# EAGLE library part PIC18F26K83 (library TRN_Open_Servo)
PIC18(L)F25/26K83 28-Pin, Low-Power, High-Performance Microcontrollers with CAN Technology Description The PIC18(L)FXXK83 is a full-featured CAN product family that can be used in automotive and industrial applications. The multitude of communication peripherals found on the product family, such as CAN, SPI, two I2Cs, two UARTs, LIN, DMX, and DALI can handle a wide range of wired and wireless (using external modules) communication protocols for intelligent applications. This family includes a 12-bit ADC with Computation (ADC2) extensions for automated signal analysis to reduce the complexity of the application. This, combined with the Core Independent Peripherals integration capabilities, enables functions for motor control, power supply, sensor, signal and user interface applications. Core Features C Compiler Optimized RISC Architecture Operating Speed: - Up to 64 MHz clock operation - 62.5 ns minimum instruction cycle Two Direct Memory Access (DMA) Controllers: - Data transfers to SFR/GPR spaces from either Program Flash Memory, Data EEPROM or SFR/GPR spaces - User-programmable source and destination sizes - Hardware and software triggered data transfers System Bus Arbiter with User-Configurable Priorities for Scanner and DMA1/DMA2 with respect to the main line and interrpt execution Vectored Interrupt Capability: - Selectable high/low priority - Fixed interrupt latency - Programmable vector table base address 31-Level Deep Hardware Stack Low-Current Power-on Reset (POR) Configurable Power-up Timer (PWRT) Brown-Out Reset (BOR) Low-Power BOR (LPBOR) Option Windowed Watchdog Timer (WWDT): - Variable prescaler selection - Variable window size selection - Configurable in hardware or software Memory Up to 64 KB Flash Program Memory Up to 4 KB Data SRAM Memory Up to 1 KB Data EEPROM Memory Access Partition (MAP): - Configurable boot and app region seizes with individual write-protections Programmable Code Protection Device Information Area (DIA) stores: - Unique IDs and Devices IDs - Temp Sensor factory-calibrated data - Fixed Voltage Reference calibrated data Device Configuration Information (DCI) stores: - Erase row size - Number of write latches per row - Number of user rows - Data EEPROM memory size - Pin Count Operating Characteristics Operating Voltage Range: - 1.8V to 3.6V (PIC18LF25/26K83) - 2.3V to 5.5V (PIC18F25/26K83) Temperature Range: - Industrial: -40°C to 85°C - Extended: -40°C to 125°C Power-Saving Functionality DOZE mode: Ability to run CPU core slower than the system clock IDLE mode: Ability to halt CPU core while internal peripherals continue operating SLEEP mode: Lowest power consumption Peripheral Module Disable (PMD): - Ability to disable unsued peripherals to minimize power consumption eXtreme Low-Power (XLP) Features Sleep mode: 60nA @1.8V, typical Windowed Watchdog Timer: 720nA @ 1.8V, typical Secondary Oscillator: 580nA @ 32 kHz Operating Current: - 4 uA @ 32kHz, 1.8V, typical - 45uA/MHz @ 1.8V, typical Digital Peripherals Three 8-Bit Timers (TMR2/4/6) with Hardware Limit Timer (HLT): - Hardware monitoring and Fault detection Four 16-Bit Timers (TMR0/1/3/5) Four Configurable Logic Cell (CLC): - Integrated combinational and sequential logic Three Complementary Waveform Generators (CWGs): - Rising and falling edge dead-band control - Full-bridge, half-bridge, 1-channel drive - Multiple signal sources - Programmable dead band - Fault-shutdown input Four Capture/Compare/PWM (CCP) modules Four 10-Bit Pulse-Width Modulators (PWMs) Numerically Controlled Oscillator (NCO): - Generates true linear frequency control - High resolution using 20-bit accumulator and 20-bit increment values DSM: Data Signal Modulator: - Multiplex two carrier clocks, with glitch pre- vention feature - Multiple sources for each carrier Programmable CRC with Memory Scan: - Reliable data/program memory monitoring for fail-safe operation(e.g., Class B) - Calculate CRC over any portion of program memory Two UART Modules: - Modules are Asynchronous, RS-232, RS-485 compatibility - One of the UART modules supports LIN Master and Slave DMX mode, DALI Gear and Device protocols - Automatic and user-timed BREAK period generation - DMA Compatible - Automatic checksums - Programmable 1, 1.5 and two Stop bits - Wake-up on BREAK reception One SPI module: - Configurable length bytes - Configurable length data packets - Receive-without-transmit option - Transmit-without-receive option - Transfer byte counter - Seperate Transmit and Receive Buffers with 2-byte FIFO and DMA capabilities CAN module: - Conforms to CAN 2.0B Active Specification - Three operating modes: Legacy (compatible with existing PIC18CXX8/FXX8 CAN modules), Enhanced mode and FIFO mode. - Message bit rates up to 1 Mbps - DeviceNetTM data byte filter support - Six programmable receive / transmit buffers - Three dedicated transmit buffers - Two dedicated receive buffers - 16 Full, 29-Bit acceptance filters with dynamic assosiation - Three full, 29-Bit acceptance masks - Automatic remote frame handling - Advanced error management features Two I2C modules, SMBus, PMBusTM compatible: - Dedicated Address, Transmit and Receive buffers - Bus Collision Detection with arbitration - Bus time-out detection and handling - Multi-Master mode - Separate Transmit and Receive Buffers with 2-Byte FIFO and DMA capabilities - I2C, SMBus 2.0 and SMBus 3.0 and 1.8V input level selections Device I/O Port Features: - 25 I/O pins (PIC18F(L)F25K83) - One input-only pin - Individually programmable I/O direction, open-drain, slew rate, weak pull-up control - Interrupt-on-change - Three External Interrupt Pins Peripheral Pin Select (PPS): - Enables pin mapping of digital I/O Two Signal Measurement Timer (SMT): - 24-Bit timer/counter with prescaler Analog Peripherals Analog-to-Digital Converter with Computation (ADC2): - 12-Bit with up to 24 external channels - Automated math functions on input signals: averaging, filter calculations, oversampling and threshold comparison - Operates in Sleep - Integrated charge pump for improved low-voltage operation Hardware Capacitive Voltage Divider (CVD): - Automates touch sampling and reduces software size and CPU usage when touch or proximity sensing is required - Adjustable sample and hold capacitor array - Two guard ring output drives Temperature Sensor: - Internal connection to ADC - Can be calibrated for improved accuracy Two Comparators: - Low-Power / High-Speed mode - Fixed Voltage Reference at non-inverting input(s) - Comparator outputs externally accessible 5-Bit Digital-to-Analog Converter (DAC): - 5-Bit resolution, rail-to-rail - Positive Reference Selection - Unbuffered I/O pin output - Internal connections to ADCs and comparators Voltage Reference: - Fixed Voltage Reference with 1.024V, 2.048 and 4.096V output levels Flexible Oscillator Structure High-Precision Internal Oscillator: - Selectable frequency range up to 64 MHz - ±1% at calibration (nominal) Low-Power Internal 32 kHz Oscillator (LFINTOSC) External 32 kHz Crystal Oscillator (SOCS) External Oscillator Block with: - x4 PLL with external sources - Three crystal / resonator modes up to 20 MHz - Three external clock modes up to 20 MHz Fail-Safe Clock Monitor Oscillator Start-up Timer (OST): - Ensures stability of crystal oscillator sources Source: PIC18(L)F25/26K83 <http://ww1.microchip.com/downloads/en/DeviceDoc/40001943A.pdf>
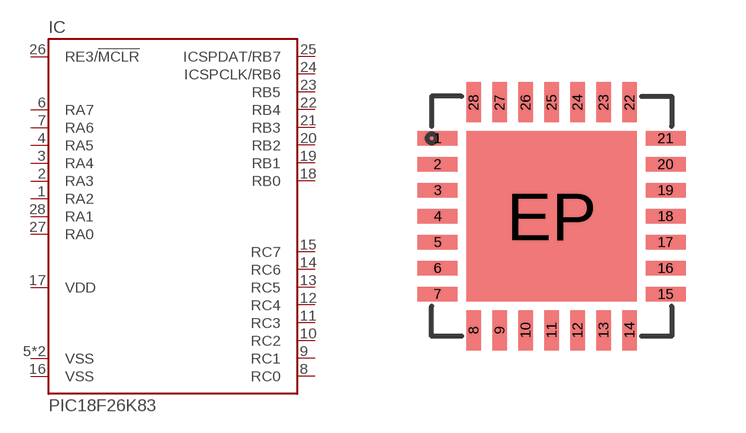
[diagram p5: symbol with the pads of QFN-28; footprint QFN-28]

Designator prefix IC

## PIC18F26K83ML  [QFN-28]
1  RA2
2  RA3
3  RA4
4  RA5
5  VSS
6  RA7
7  RA6
8  RC0
9  RC1
10  RC2
11  RC3
12  RC4
13  RC5
14  RC6
15  RC7
16  VSS
17  VDD
18  RB0
19  RB1
20  RB2
21  RB3
22  RB4
23  RB5
24  ICSPCLK/RB6
25  ICSPDAT/RB7
26  RE3/!MCLR!
27  RA0
28  RA1
EP  VSS

## Footprint QFN-28 (pad centres in mm)
28-Lead Plastic Quad Flat, No Lead Package (ML) - 6 X 6 mm Body [QFN]
smd 1 x 0.37: 1 -2.85,1.95; 2 -2.85,1.3; 3 -2.85,0.65; 4 -2.85,0; 5 -2.85,-0.65; 6 -2.85,-1.3; 7 -2.85,-1.95; 15 2.85,-1.95; 16 2.85,-1.3; 17 2.85,-0.65; 18 2.85,0; 19 2.85,0.65; 20 2.85,1.3; 21 2.85,1.95
smd 0.37 x 1: 8 -1.95,-2.85; 9 -1.3,-2.85; 10 -0.65,-2.85; 11 0,-2.85; 12 0.65,-2.85; 13 1.3,-2.85; 14 1.95,-2.85; 22 1.95,2.85; 23 1.3,2.85; 24 0.65,2.85; 25 0,2.85; 26 -0.65,2.85; 27 -1.3,2.85; 28 -1.95,2.85
smd 4.25 x 4.25: EP 0,0